# EAGLE library part APA102 (library Z_GessIOMod)
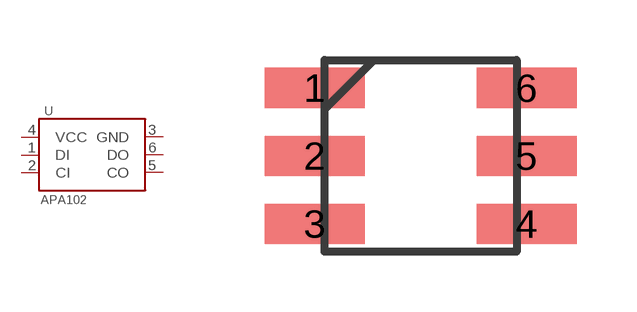
[diagram p9: symbol with the pads of LED5050PACK; footprint LED5050PACK]

Designator prefix -

## APA102  [LED5050PACK]
1  DI
2  CI
3  GND
4  VCC
5  CO
6  DO

## Footprint LED5050PACK (pad centres in mm)
1.5W RGB HIGH POWER LED LEDTECH ELECTRONICS CORP. Source: LP2C63-ST-RGB-SR0.SPEC.pdf
smd 2.5 x 1: 1 -2.65,1.7; 2 -2.65,0; 3 -2.65,-1.7; 4 2.65,-1.7; 5 2.65,0; 6 2.65,1.7